# Altium schematic symbol library Passive.SchLib: 1 symbol
Pins are listed as number, name and electrical type; pins without a type are passive.

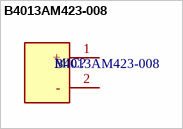
[diagram p0: symbol B4013AM423-008]

## B4013AM423-008
designator MIC?
B4013AM423-008 MIC-SMD_BD4.0_B4013AM423-008; SEEX_AUTHOR: ref42; SEEX_COMPONENT_ID: C233794; SEEX_PROJECT_URL: https://github.com/ref42/seex; Footprint: B4013AM423-008; LCSC Part Name: B4013AM423-008 MIC-SMD_BD4.0_B4013AM423-008; Manufacturer Part: B4013AM423-008; Supplier: LCSC; Supplier Part: C233794
footprint B4013AM423-008 (PCB footprint)
pins: 1 +, 2 -